# Altium footprint library VSON.PcbLib: 1 footprints
Each footprint in its own frame and in the unit in brackets; x right, y up, seen from the top. Pads: shape width x height; smd on the part's side, far side on the other; paste and mask are expansions set on the pad; w line width, h text height; cw(c..) or ccw(c..) is an arc to the next point about the centre after c.
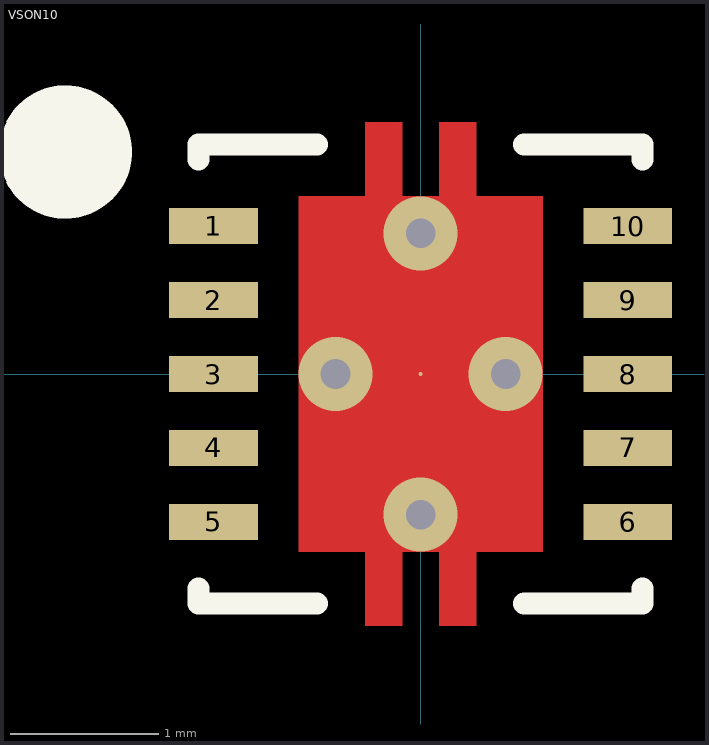
[diagram p0: the footprint, top view; thin cyan lines are the x and y axes]

## VSON10 [mm]
pads (11):
  rect 0.6x0.24 smd mask+0.05: 1(-1.4,1) 2(-1.4,0.5) 3(-1.4,0) 4(-1.4,-0.5) 5(-1.4,-1) 6(1.4,-1) 7(1.4,-0.5) 8(1.4,0) 9(1.4,0.5) 10(1.4,1)
  round 0.025 smd: 11(0,0)
via 0,0.95 diameter 0.5 hole 0.2
via 0.575,0 diameter 0.5 hole 0.2
via 0,-0.95 diameter 0.5 hole 0.2
via -0.575,0 diameter 0.5 hole 0.2
Top Layer:
  region: -0.825,1.2 -0.375,1.2 -0.375,1.7 -0.125,1.7 -0.125,1.2 0.125,1.2 0.125,1.7 0.375,1.7 0.375,1.2 0.825,1.2 0.825,-1.2 0.375,-1.2 0.375,-1.7 0.125,-1.7 0.125,-1.2 -0.125,-1.2 -0.125,-1.7 -0.375,-1.7 -0.375,-1.2 -0.825,-1.2
Top Overlay:
  circle w0.5: c-2.4,1.5 r0.2
  lines w0.15: -1.5,-1.45 -1.5,-1.55 -0.7,-1.55 ; -1.5,1.45 -1.5,1.55 -0.7,1.55 ; 0.7,-1.55 1.5,-1.55 1.5,-1.45 ; 0.7,1.55 1.5,1.55 1.5,1.45
3D body "VSON10.step": height 0.95, standoff -0.05, extent -1.5,-1.5 1.5,1.5